# Altium footprint library TSSOP20-SPE-TJA1080ATS.PcbLib: 1 footprints
Each footprint in its own frame and in the unit in brackets; x right, y up, seen from the top. Pads: shape width x height; smd on the part's side, far side on the other; paste and mask are expansions set on the pad; w line width, h text height; cw(c..) or ccw(c..) is an arc to the next point about the centre after c.
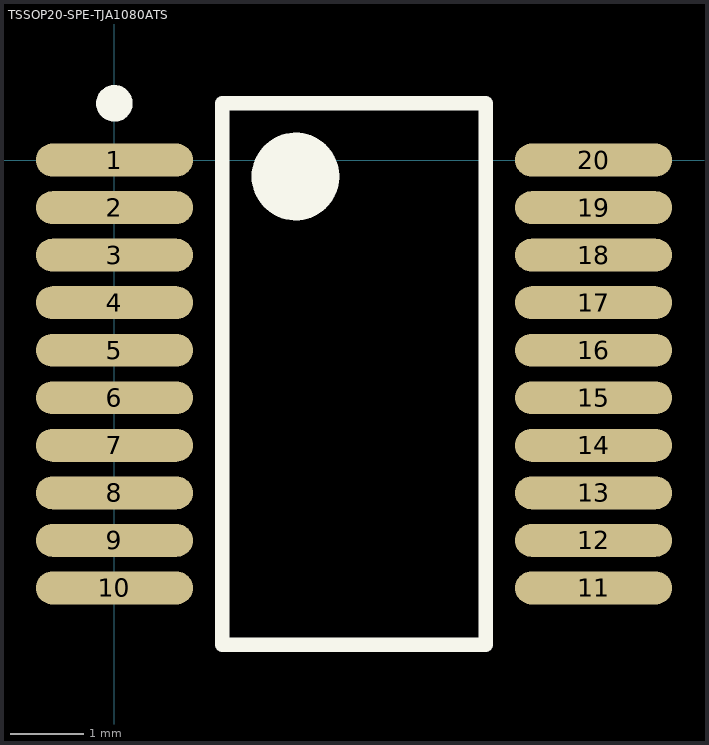
[diagram p0: the footprint, top view; thin cyan lines are the x and y axes]

## TSSOP20-SPE-TJA1080ATS [mm]
height 2
pads (20):
  oval 2.15x0.45 smd: 1(0,0) 2(0,-0.65) 3(0,-1.3) 4(0,-1.95) 5(0,-2.6) 6(0,-3.25) 7(0,-3.9) 8(0,-4.55) 9(0,-5.2) 10(0,-5.85) 11(6.55,-5.85) 12(6.55,-5.2) 13(6.55,-4.55) 14(6.55,-3.9) 15(6.55,-3.25) 16(6.55,-2.6) 17(6.55,-1.95) 18(6.55,-1.3) 19(6.55,-0.65) 20(6.55,0)
Top Overlay:
  circle w0.25: c0,0.775 r0.125
  circle w0.6: c2.475,-0.225 r0.3
  lines w0.2: 1.475,-6.625 1.475,0.775 5.075,0.775 5.075,-6.625 1.475,-6.625
3D body: height 1.2, standoff 0, extent -0.1,-6.221 6.45,0.379